# EAGLE library part AVR-ISP (library KaiBader)
Atmel AVR ISP AVR Microcontroller In-System Programmer pinout
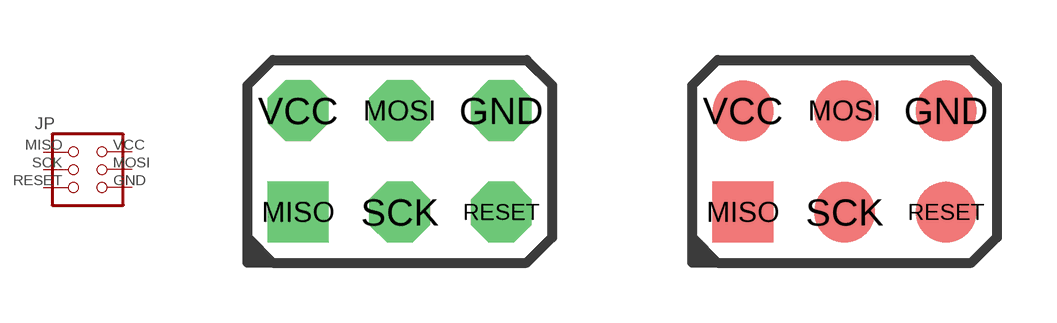
[diagram p2: symbol with the pads of AVR-ISP; footprints AVR-ISP, AVR-ISP-PADS]

Designator prefix JP

## AVR-ISP  [AVR-ISP]
GND  GND  pwr
MISO  MISO
MOSI  MOSI
RESET  RESET
SCK  SCK
VCC  VCC  pwr

## AVR-ISPPADS  [AVR-ISP-PADS]
Pads as for AVR-ISP

## Footprint AVR-ISP (pad centres in mm)
Atmel AVR ISP AVR Microcontroller In-System Programmer pinout PIN HEADER
drill 1.016 octagon: GND 2.54,1.27; MOSI 0,1.27; RESET 2.54,-1.27; SCK 0,-1.27; VCC -2.54,1.27
drill 1.016 square: MISO -2.54,-1.27

## Footprint AVR-ISP-PADS (pad centres in mm)
Atmel AVR ISP Single layer (pads) version of the AVR Microcontroller In-System Programmer pinout.
smd 1.524 x 1.524: GND 2.54,1.27; MISO -2.54,-1.27; MOSI 0,1.27; RESET 2.54,-1.27; SCK 0,-1.27; VCC -2.54,1.27